# Altium footprint library AltiumDesigner.PcbLib: 3 footprints
Each footprint in its own frame and in the unit in brackets; x right, y up, seen from the top. Pads: shape width x height; smd on the part's side, far side on the other; paste and mask are expansions set on the pad; w line width, h text height; cw(c..) or ccw(c..) is an arc to the next point about the centre after c.
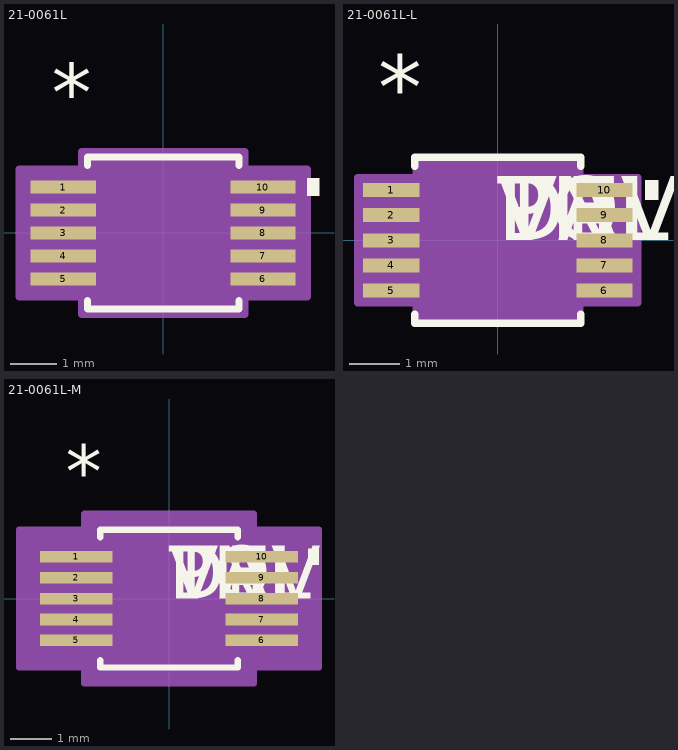
[diagram p0: the footprints below, top view; thin cyan lines are the x and y axes]

## 21-0061L [mil]
pads (10):
  rect 56x11 smd: 1(-85.5,39.37) 2(-85.5,19.68) 3(-85.5,0) 4(-85.5,-19.68) 5(-85.5,-39.37) 6(85.5,-39.37) 7(85.5,-19.68) 8(85.5,0) 9(85.5,19.68) 10(85.5,39.37)
Top Overlay:
  region: 123.5,46.87 133.5,46.87 133.5,31.87 123.5,31.87
  lines w6: -65,-57.97 -65,-65 65,-65 65,-57.97 ; -65,57.97 -65,65 65,65 65,57.97
  text "*" at -95.5,95.37 h50
Mechanical 13:
  lines w0: -12,60 ccw(c0,60) 12,60
  text "*" at -45,57 h50
Mechanical 15:
  region: -70,-54.87 -123.5,-54.87 -123.5,54.87 -70,54.87 -70,70 70,70 70,54.87 123.5,54.87 123.5,-54.87 70,-54.87 70,-70 -70,-70
  lines w6: -123.5,-54.87 -123.5,54.87 -70,54.87 -70,70 70,70 70,54.87 123.5,54.87 123.5,-54.87 70,-54.87 70,-70 -70,-70 -70,-54.87 -123.5,-54.87
3D body: height 10, standoff 0, extent 0,0 10,10

## 21-0061L-L [mil]
pads (10):
  rect 44x11 smd: 1(-83.5,39.37) 2(-83.5,19.68) 3(-83.5,0) 4(-83.5,-19.68) 5(-83.5,-39.37) 6(83.5,-39.37) 7(83.5,-19.68) 8(83.5,0) 9(83.5,19.68) 10(83.5,39.37)
Top Overlay:
  region: 115.5,46.87 125.5,46.87 125.5,31.87 115.5,31.87
  lines w6: -65,-57.97 -65,-65 65,-65 65,-57.97 ; -65,57.97 -65,65 65,65 65,57.97
  text "*" at -93.5,95.37 h50
  text "PN" at 0,0 h50
  text "DEV" at 0,0 h50
  text "VAL" at 0,0 h50
  text "TOL" at 0,0 h50
Mechanical 13:
  lines w0: -12,60 ccw(c0,60) 12,60
  text "*" at -45,57 h50
  text "RefDes2" at 0,0 h50
Mechanical 15:
  region: -64,-48.87 -109.5,-48.87 -109.5,48.87 -64,48.87 -64,64 64,64 64,48.87 109.5,48.87 109.5,-48.87 64,-48.87 64,-64 -64,-64
  lines w6: -109.5,-48.87 -109.5,48.87 -64,48.87 -64,64 64,64 64,48.87 109.5,48.87 109.5,-48.87 64,-48.87 64,-64 -64,-64 -64,-48.87 -109.5,-48.87
3D body: height 10, standoff 0, extent 0,0 10,10

## 21-0061L-M [mil]
pads (10):
  rect 68x11 smd: 1(-87.5,39.37) 2(-87.5,19.68) 3(-87.5,0) 4(-87.5,-19.68) 5(-87.5,-39.37) 6(87.5,-39.37) 7(87.5,-19.68) 8(87.5,0) 9(87.5,19.68) 10(87.5,39.37)
Top Overlay:
  region: 131.5,46.87 141.5,46.87 141.5,31.87 131.5,31.87
  lines w6: -65,-57.97 -65,-65 65,-65 65,-57.97 ; -65,57.97 -65,65 65,65 65,57.97
  text "*" at -97.5,95.37 h50
  text "PN" at 0,0 h50
  text "DEV" at 0,0 h50
  text "VAL" at 0,0 h50
  text "TOL" at 0,0 h50
Mechanical 13:
  lines w0: -12,60 ccw(c0,60) 12,60
  text "*" at -45,57 h50
  text "RefDes2" at 0,0 h50
Mechanical 15:
  region: -80,-64.87 -141.5,-64.87 -141.5,64.87 -80,64.87 -80,80 80,80 80,64.87 141.5,64.87 141.5,-64.87 80,-64.87 80,-80 -80,-80
  lines w6: -141.5,-64.87 -141.5,64.87 -80,64.87 -80,80 80,80 80,64.87 141.5,64.87 141.5,-64.87 80,-64.87 80,-80 -80,-80 -80,-64.87 -141.5,-64.87
3D body: height 10, standoff 0, extent 0,0 10,10